# Altium footprint library IHLP2525CZER3R3M01.PcbLib: 1 footprints
Each footprint in its own frame and in the unit in brackets; x right, y up, seen from the top. Pads: shape width x height; smd on the part's side, far side on the other; paste and mask are expansions set on the pad; w line width, h text height; cw(c..) or ccw(c..) is an arc to the next point about the centre after c.
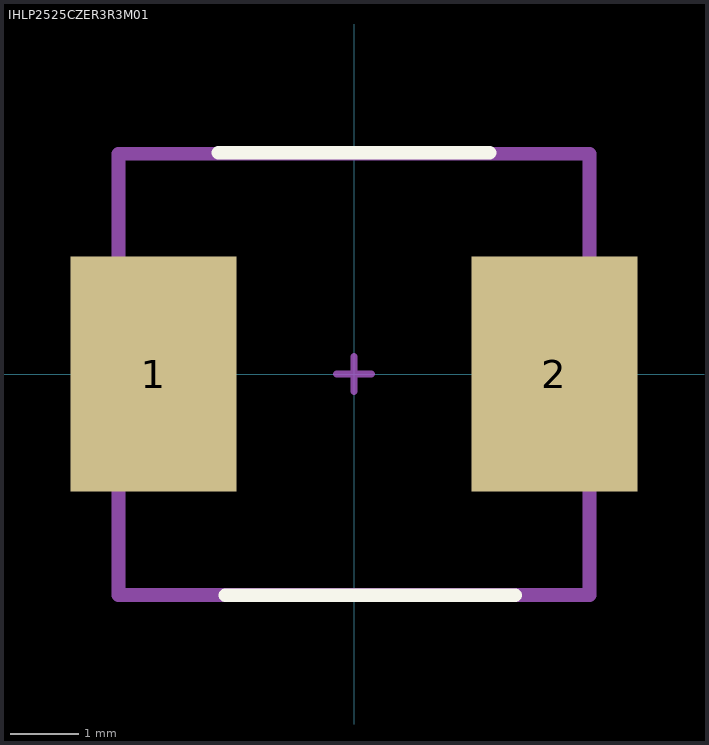
[diagram p0: the footprint, top view; thin cyan lines are the x and y axes]

## IHLP2525CZER3R3M01 [mil]
pads (2):
  rect 95x135 smd mask+2: 1(-115,0) 2(115,0)
Top Overlay:
  lines w7.87: -77.76,126.97 77.76,126.97 ; -73.82,-126.97 92.52,-126.97
Mechanical 13:
  lines w7.87: -135.04,-126.77 135.04,-126.77 135.04,126.38 -135.04,126.38 -135.04,-126.77
Mechanical 15:
  lines w3.94: 0,-10 0,0 ; 0,0 10,0 0,0 ; 0,0 0,10 0,0 ; 0,0 -10,0 0,0
3D body "IHLP2525CZER3R3M01.step": height 118.11, standoff 0, extent -135.04,-127.36 135.04,127.36